# Altium schematic symbol library LicheeDan.SCHLIB: 28 symbols
Pins are listed as number, name and electrical type; pins without a type are passive.

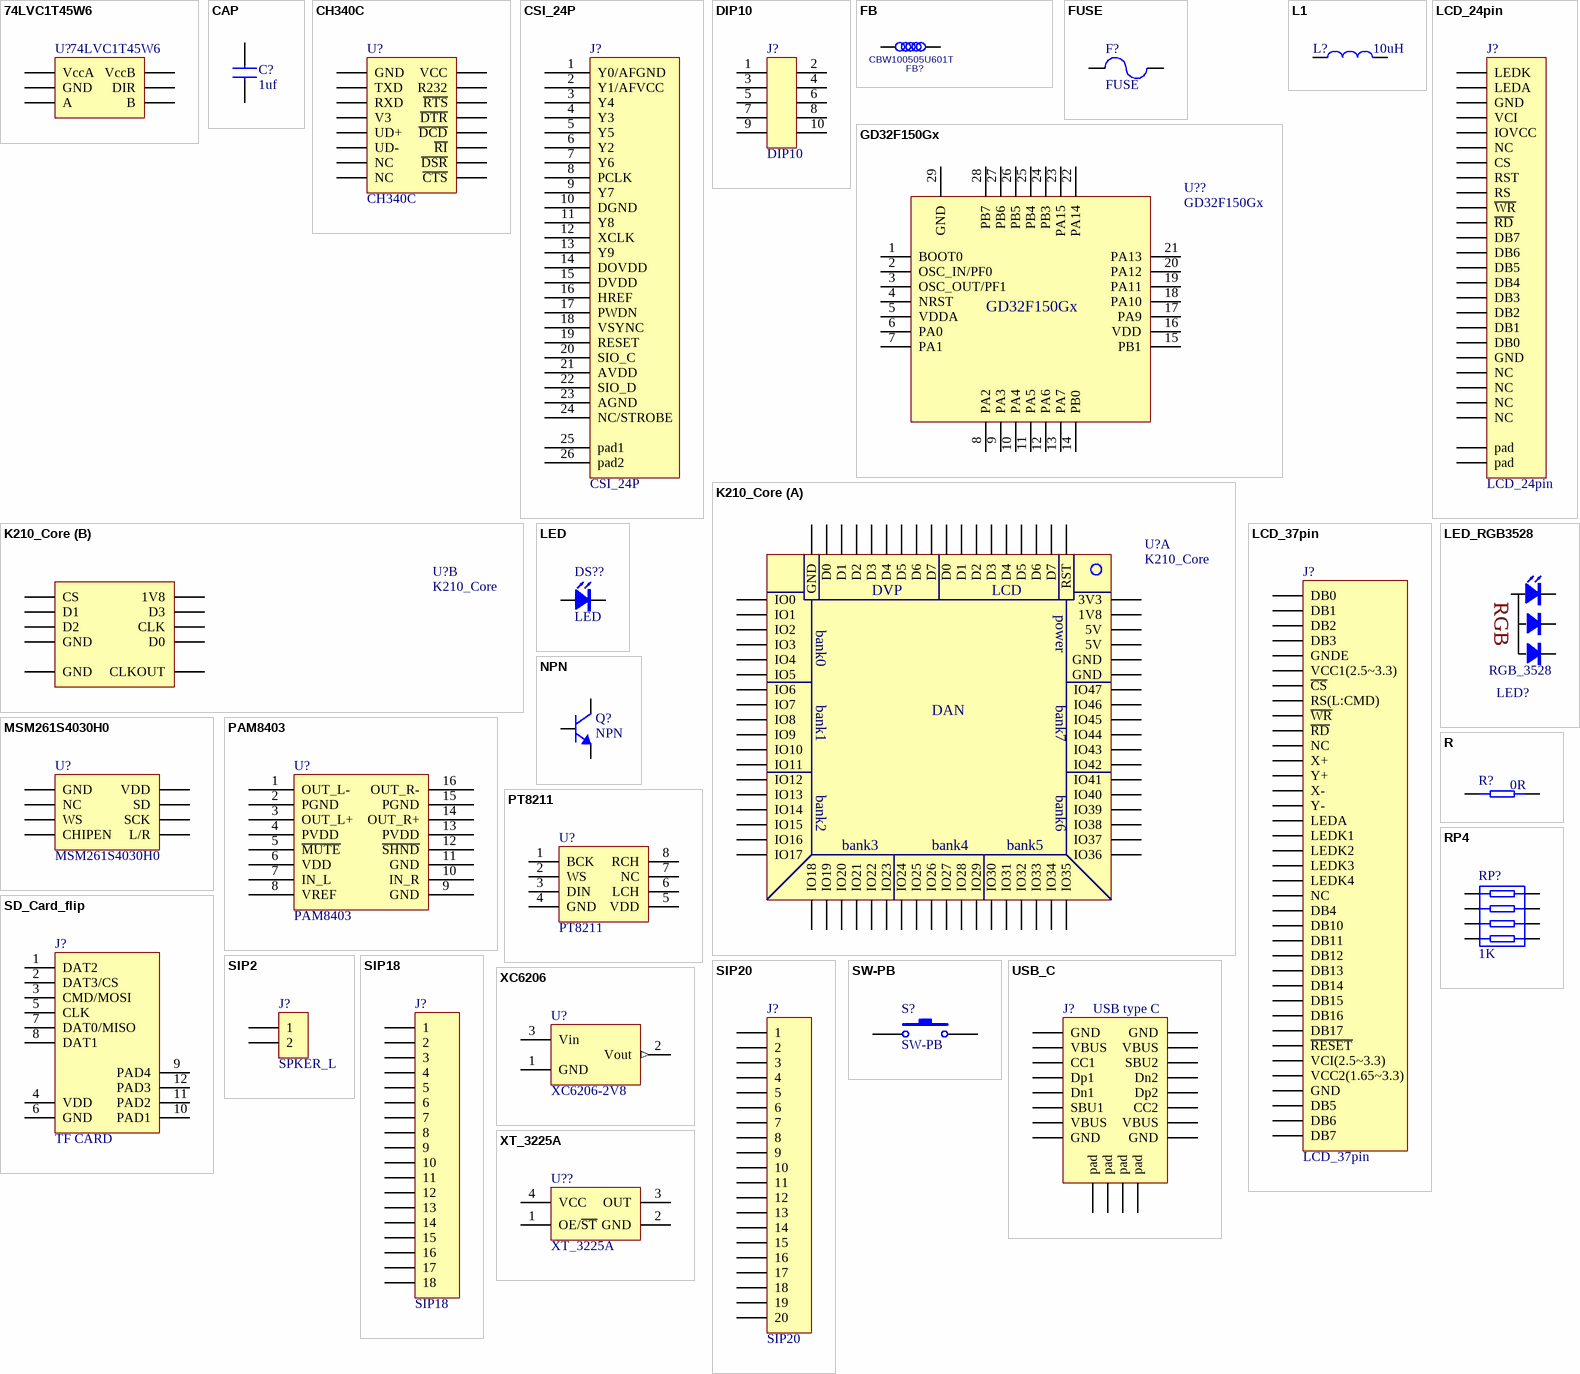
[diagram p0: symbols 74LVC1T45W6 to XT_3225A]

## 74LVC1T45W6
designator U?
footprint sot23_6
pins: 1 VccA, 2 GND, 3 A, 4 B, 5 DIR, 6 VccB

## CAP
designator C?, comment 1uf
SMD-CAP
footprint 0603C
footprint 0805C
footprint 1206C
footprint C_CCB
footprint 0402C
pins: 1, 2

## CH340C
designator U?
footprint SO-16N
pins: 1 GND, 2 TXD, 3 RXD, 4 V3, 5 UD+, 6 UD-, 7 NC, 8 NC, 9 ~{CTS}, 10 ~{DSR}, 11 ~{RI}, 12 ~{DCD}, 13 ~{DTR}, 14 ~{RTS}, 15 R232, 16 VCC

## CSI_24P
designator J?
footprint FPC-24P-0.5
footprint FPC-24P-0.5-cam
pins: 1 Y0/AFGND, 2 Y1/AFVCC, 3 Y4, 4 Y3, 5 Y5, 6 Y2, 7 Y6, 8 PCLK, 9 Y7, 10 DGND, 11 Y8, 12 XCLK, 13 Y9, 14 DOVDD, 15 DVDD, 16 HREF, 17 PWDN, 18 VSYNC, 19 RESET, 20 SIO_C, 21 AVDD, 22 SIO_D, 23 AGND, 24 NC/STROBE, 25 pad1, 26 pad2

## DIP10
designator J?
Connectors; Set Position: 0.5; Published: 8-Jun-2000; LatestRevisionDate: 17-Jul-2002; LatestRevisionNote: Re-released for DXP Platform.; PackageReference: AXIAL-0.6; Publisher: Altium Limited
footprint DIP10-2.54
pins: 1, 2, 3, 4, 5, 6, 7, 8, 9, 10

## FB
designator FB?, comment CBW100505U601T
DescriptiveText: 0402 磁珠 600R@100MHz,150mA; TYPE: 贴片磁珠
footprint FB0402
footprint 0402R
pins: 1, 2

## FUSE
designator F?
CR-1812-050A60V
footprint 1812R
footprint 0805R
pins: 1, 2

## GD32F150Gx
designator U??
footprint QFN28
pins: 1 BOOT0, 2 OSC_IN/PF0, 3 OSC_OUT/PF1, 4 NRST, 5 VDDA, 6 PA0, 7 PA1, 8 PA2, 9 PA3, 10 PA4, 11 PA5, 12 PA6, 13 PA7, 14 PB0, 15 PB1, 16 VDD, 17 PA9, 18 PA10, 19 PA11, 20 PA12, 21 PA13, 22 PA14, 23 PA15, 24 PB3, 25 PB4, 26 PB5, 27 PB6, 28 PB7, 29 GND

## K210_Core
designator U?
footprint K210_core
part A pins: 1 IO0, 2 IO1, 3 IO2, 4 IO3, 5 IO4, 6 IO5, 7 IO6, 8 IO7, 9 IO8, 10 IO9, 11 IO10, 12 IO11, 13 IO12, 14 IO13, 15 IO14, 16 IO15, 17 IO16, 18 IO17, 19 IO18, 20 IO19, 21 IO20, 22 IO21, 23 IO22, 24 IO23, 25 IO24, 26 IO25, 27 IO26, 28 IO27, 29 IO28, 30 IO29, 31 IO30, 32 IO31, 33 IO32, 34 IO33, 35 IO34, 36 IO35, 37 IO36, 38 IO37, 39 IO38, 40 IO39, 41 IO40, 42 IO41, 43 IO42, 44 IO43, 45 IO44, 46 IO45, 47 IO46, 48 IO47, 49 GND, 50 GND, 51 5V, 52 5V, 53 1V8, 54 3V3, 55 RST, 56 D7, 57 D6, 58 D5, 59 D4, 60 D3, 61 D2, 62 D1, 63 D0, 64 D7, 65 D6, 66 D5, 67 D4, 68 D3, 69 D2, 70 D1, 71 D0, 72 GND
part B pins: 0 GND, 73 CS, 74 D1, 75 D2, 76 GND, 77 D0, 78 CLK, 79 D3, 80 1V8, 81 CLKOUT
part A text: DVP; LCD; power; bank0; bank1; bank7; DAN; bank2; bank6; bank3; bank4; bank5

## L1
designator L?, comment 10uH
电感
footprint SLF10145
footprint SLF12565
footprint 0805R
footprint 0402R
pins: 1, 2

## LCD_24pin
designator J?
footprint FPC-24P-0.5
pins: 1 LEDK, 2 LEDA, 3 GND, 4 VCI, 5 IOVCC, 6 NC, 7 CS, 8 RST, 9 RS, 10 ~{WR}, 11 ~{RD}, 12 DB7, 13 DB6, 14 DB5, 15 DB4, 16 DB3, 17 DB2, 18 DB1, 19 DB0, 20 GND, 21 NC, 22 NC, 23 NC, 24 NC, 25 pad, 26 pad

## LCD_37pin
designator J?
footprint LCD_37pin
pins: 1 DB0, 2 DB1, 3 DB2, 4 DB3, 5 GNDE, 6 VCC1(2.5~3.3), 7 ~{CS}, 8 RS(L:CMD), 9 ~{WR}, 10 ~{RD}, 11 NC, 12 X+, 13 Y+, 14 X-, 15 Y-, 16 LEDA, 17 LEDK1, 18 LEDK2, 19 LEDK3, 20 LEDK4, 21 NC, 22 DB4, 23 DB10, 24 DB11, 25 DB12, 26 DB13, 27 DB14, 28 DB15, 29 DB16, 30 DB17, 31 ~{RESET}, 32 VCI(2.5~3.3), 33 VCC2(1.65~3.3), 34 GND, 35 DB5, 36 DB6, 37 DB7

## LED
designator DS??
footprint 0805D
footprint LED-5
footprint 0603D_R
pins: A 1, K 2

## LED_RGB3528
designator LED?, comment RGB_3528
footprint LED_RGB3528
pins: 1 R, 2 COM+, 3 G, 4 B
text: RGB

## MSM261S4030H0
designator U?
footprint MSM261S4030H0
pins: 1 GND, 2 NC, 3 WS, 4 CHIPEN, 5 L/R, 6 SCK, 7 SD, 8 VDD

## NPN
designator Q?
footprint SOT-23Q
pins: B, C, E

## PAM8403
designator U?
footprint SO-16N
pins: 1 OUT_L-, 2 PGND, 3 OUT_L+, 4 PVDD, 5 ~{MUTE}, 6 VDD, 7 IN_L, 8 VREF, 9 GND, 10 IN_R, 11 GND, 12 ~{SHND}, 13 PVDD, 14 OUT_R+, 15 PGND, 16 OUT_R-

## PT8211
designator U?
footprint SO-8M
pins: 1 BCK, 2 WS, 3 DIN, 4 GND, 5 VDD, 6 LCH, 7 NC, 8 RCH

## R
designator R?, comment 0R
footprint 0805R
footprint R-AXIAL0.3
footprint R-AXIAL0.4
footprint 0402R
pins: 1, 2

## RP4
designator RP?, comment 1K
footprint 0402Rx4
footprint YC164
pins: 1, 2, 3, 4, 5, 6, 7, 8

## SD_Card_flip
designator J?, comment TF CARD
footprint TF CAR
footprint TF_short
footprint TF_self-ejectC
footprint TF_shortC
pins: 1 DAT2, 2 DAT3/CS, 3 CMD/MOSI, 4 VDD, 5 CLK, 6 GND, 7 DAT0/MISO, 8 DAT1, 9 PAD4, 10 PAD1, 11 PAD2, 12 PAD3

## SIP2
designator J?, comment SPKER_L
jointbar
footprint SIP2-2.0
footprint SIP2-2.54
footprint AWT_1.25_2P
footprint AWT_1.25_2P_LI
footprint SIP2_2.54_smt
pins: 1, 2

## SIP18
designator J?
footprint SIP18_1.27_half
footprint DIP18
footprint DIP18-2.54
pins: 1, 2, 3, 4, 5, 6, 7, 8, 9, 10, 11, 12, 13, 14, 15, 16, 17, 18

## SIP20
designator J?
jointbar
footprint SIP20-2.54
footprint DIP20-2.54
pins: 1, 2, 3, 4, 5, 6, 7, 8, 9, 10, 11, 12, 13, 14, 15, 16, 17, 18, 19, 20

## SW-PB
designator S?
Switch; Published: 24-Mar-1999; LatestRevisionDate: 17-Jul-2002; LatestRevisionNote: Re-released for DXP Platform.; PackageReference: SPST-2; Publisher: Altium Limited
footprint SPST-2 (Switch; 2 Leads)
footprint key2_3*4
footprint key4_3x4
pins: 1, 2

## USB_C
designator J?, comment USB type C
footprint USB_C
pins: 0 pad, 0 pad, 0 pad, 0 pad, A1 GND, A4 VBUS, A5 CC1, A6 Dp1, A7 Dn1, A8 SBU1, A9 VBUS, A12 GND, B1 GND, B4 VBUS, B5 CC2, B6 Dp2, B7 Dn2, B8 SBU2, B9 VBUS, B12 GND

## XC6206
designator U?, comment XC6206-2V8
3.3V
footprint TO-92
footprint SOT-23
pins: 1 GND (power), 2 Vout (out), 3 Vin (power)

## XT_3225A
designator U??
footprint SMD3225
pins: 1 OE/~{ST}, 2 GND, 3 OUT, 4 VCC